# Altium footprint library Resistor_Smd_M3246_I1812.PcbLib: 1 footprints
Each footprint in its own frame and in the unit in brackets; x right, y up, seen from the top. Pads: shape width x height; smd on the part's side, far side on the other; paste and mask are expansions set on the pad; w line width, h text height; cw(c..) or ccw(c..) is an arc to the next point about the centre after c.
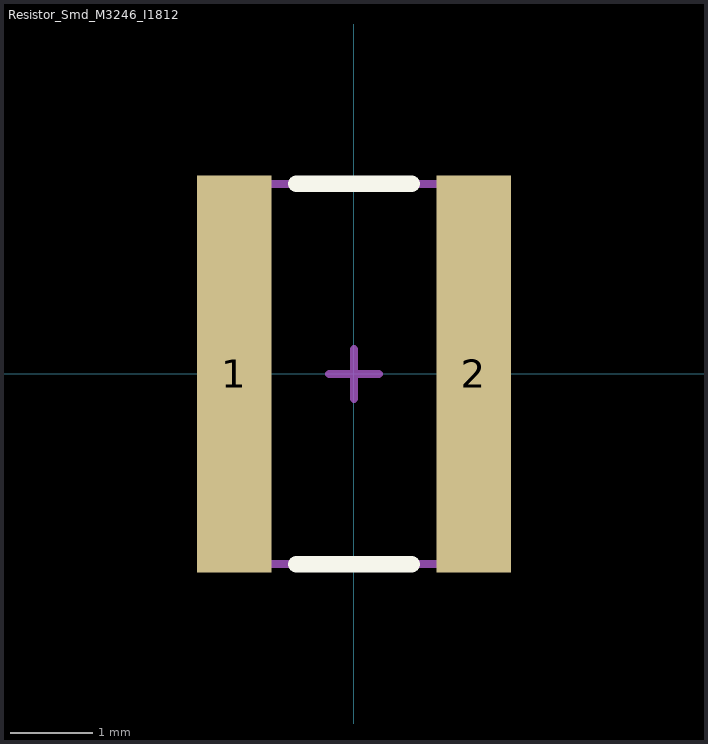
[diagram p0: the footprint, top view; thin cyan lines are the x and y axes]

## Resistor_Smd_M3246_I1812 [mm] "Resistor_Smd_M3246_I1812"
height 0.55
pads (2):
  rect 0.9x4.8 smd mask+0.05: 1(-1.45,0) 2(1.45,0)
Top Overlay:
  lines w0.2: -0.7,-2.3 0.7,-2.3 ; -0.7,2.3 0.7,2.3
Top Assembly:
  lines w0.1: -1.6,-2.3 -1.6,2.3 1.6,2.3 1.6,-2.3 -1.6,-2.3
Top Designator:
  text ".Designator" at -2,-3.275 h1.2
Top Component Center:
  lines w0.1: -0.3,0 0.3,0 ; 0,-0.3 0,0.3
3D body "Resistor_Smd_M3246_I1812.step": height 0.6, standoff 0, extent -1.6,-2.31 1.6,2.31